# Altium footprint library QAxCx.PcbLib: 1 footprints
Each footprint in its own frame and in the unit in brackets; x right, y up, seen from the top. Pads: shape width x height; smd on the part's side, far side on the other; paste and mask are expansions set on the pad; w line width, h text height; cw(c..) or ccw(c..) is an arc to the next point about the centre after c.
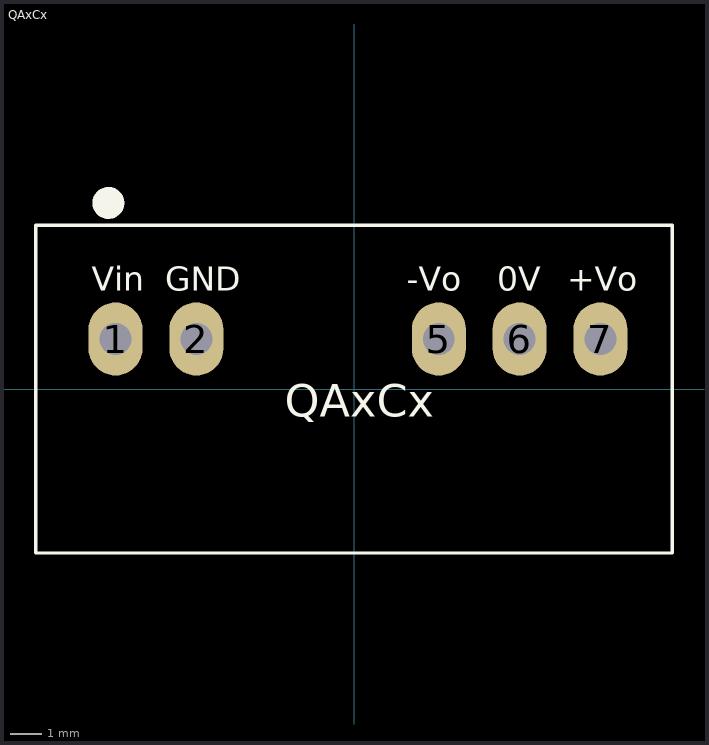
[diagram p0: the footprint, top view; thin cyan lines are the x and y axes]

## QAxCx [mm]
pads (5):
  oval 1.7x2.3 hole 1: 1(-7.495,1.575) 2(-4.955,1.575) 5(2.665,1.575) 6(5.205,1.575) 7(7.745,1.575)
Top Overlay:
  circle w0.5: c-7.72,5.85 r0.25
  lines w0.1: -10,-5.15 10,-5.15 10,5.15 -10,5.15 -10,-5.15
  text "QAxCx" at -2.175,-0.875 h1.02
  text "+Vo" at 6.705,3.093 h0.76
  text "-Vo" at 1.655,3.093 h0.76
  text "0V" at 4.505,3.093 h0.76
  text "GND" at -5.925,3.093 h0.76
  text "Vin" at -8.245,3.093 h0.76